# Altium footprint library Connectors.PcbLib: 18 footprints (part 2 of 2)
Each footprint in its own frame and in the unit in brackets; x right, y up, seen from the top. Pads: shape width x height; smd on the part's side, far side on the other; paste and mask are expansions set on the pad; w line width, h text height; cw(c..) or ccw(c..) is an arc to the next point about the centre after c.
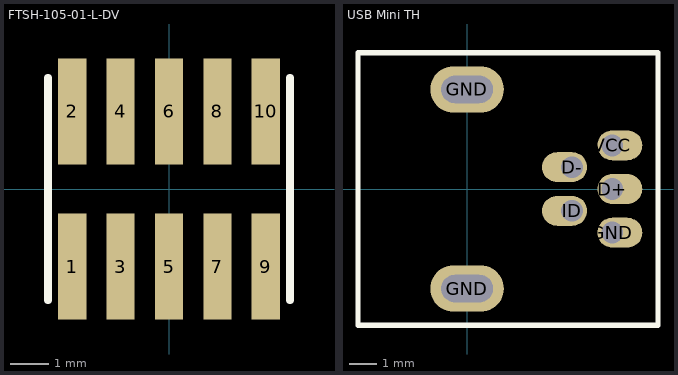
[diagram p1: the footprints below, top view; thin cyan lines are the x and y axes]

## FTSH-105-01-L-DV [mm] "FTSH-105-01-L-DV"
height 6
pads (10):
  rect 0.74x2.79 smd: 1(-2.54,-2.035) 2(-2.54,2.035) 3(-1.27,-2.035) 4(-1.27,2.035) 5(0,-2.035) 6(0,2.035) 7(1.27,-2.035) 8(1.27,2.035) 9(2.54,-2.035) 10(2.54,2.035)
Top Overlay:
  lines w0.2: -3.175,-2.921 -3.175,2.921 ; 3.175,-2.921 3.175,2.921
3D body: height 6.01, standoff 0.04, extent -3.175,-2.921 3.175,2.921

## USB Mini TH [mm] "USB Mini MOLEX 548190519"
height 4
pads (7):
  oval 1.65x1.1 hole 0.8 copper offset 0.275,0: D+(5.325,0) GND(5.325,-1.6) VCC(5.325,1.6)
  oval 1.65x1.1 hole 0.8 copper offset -0.275,0: D-(3.85,0.8) ID(3.85,-0.8)
  oval 2.7x1.7 hole 1 slot 1.9 at 0 deg: GND(0,-3.65) GND(0,3.65)
Top Overlay:
  lines w0.2: -4,-5 7,-5 7,5 -4,5 -4,-5
3D body: height 4, standoff -1.75, extent -3.6,-3.85 5.4,3.85